# Altium footprint library DI_DO-35.PcbLib: 1 footprints
Each footprint in its own frame and in the unit in brackets; x right, y up, seen from the top. Pads: shape width x height; smd on the part's side, far side on the other; paste and mask are expansions set on the pad; w line width, h text height; cw(c..) or ccw(c..) is an arc to the next point about the centre after c.
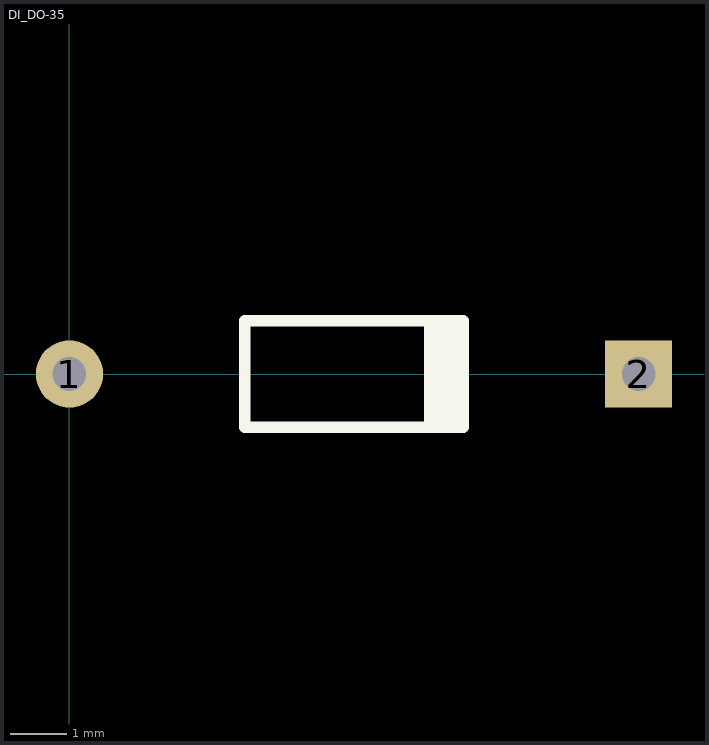
[diagram p0: the footprint, top view; thin cyan lines are the x and y axes]

## DI_DO-35 [mm] "Diode, Axial; Body 3.8 x 1.9 mm (LxDia. max), Lead Dia. 0.53 mm (max)"
height 1.9
pads (2):
  round 1.2 hole 0.6: 1(0,0)
  rect 1.2x1.2 hole 0.6: 2(10.16,0)
Top Overlay:
  rectangle: 6.33,-0.95 7.13,0.95
  lines w0.2: 7.03,-0.95 3.13,-0.95 3.13,0.95 7.03,0.95
3D body: height 0.96, standoff -3.72, extent -0.266,-0.876 10.427,0.876